# EAGLE library part PT8211 (library Elecrow_IC)
16 Bit Digital to Analog Converter http://www.princeton.com.tw/downloadprocess/downloadfile.asp? mydownload=PT8211.pdf
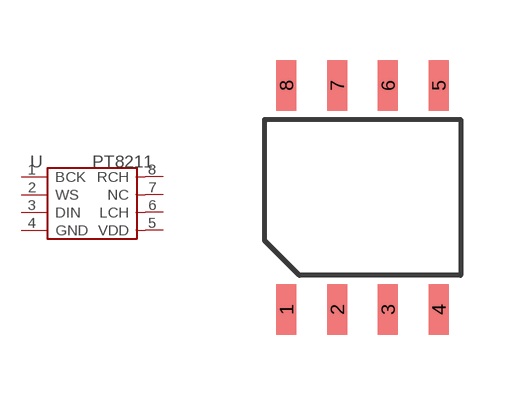
[diagram p10: symbol with the pads of SOP8-6.0-4.9X3.9; footprint SOP8-6.0-4.9X3.9]

Designator prefix U

## PT8211-SOP8  [SOP8-6.0-4.9X3.9]
1  BCK  in
2  WS  in
3  DIN  in
4  GND  sup
5  VDD  sup
6  LCH  out
7  NC  nc
8  RCH  out

## Footprint SOP8-6.0-4.9X3.9 (pad centres in mm)
smd 0.5 x 1.27: 1 -1.905,-2.8; 2 -0.635,-2.8; 3 0.635,-2.8; 4 1.905,-2.8; 5 1.905,2.8; 6 0.635,2.8; 7 -0.635,2.8; 8 -1.905,2.8